# Altium footprint library PCAL6524EVJ.PcbLib: 1 footprints
Each footprint in its own frame and in the unit in brackets; x right, y up, seen from the top. Pads: shape width x height; smd on the part's side, far side on the other; paste and mask are expansions set on the pad; w line width, h text height; cw(c..) or ccw(c..) is an arc to the next point about the centre after c.
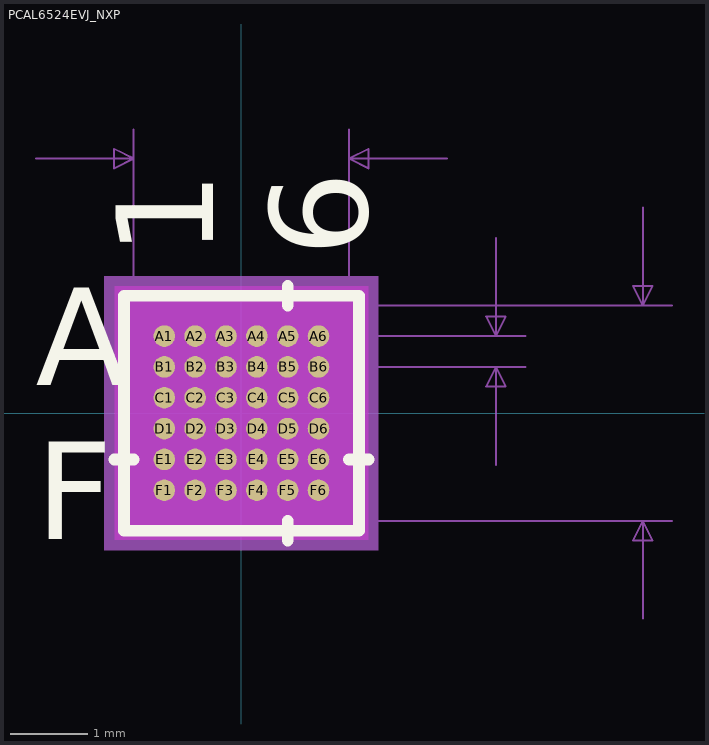
[diagram p0: the footprint, top view; thin cyan lines are the x and y axes]

## PCAL6524EVJ_NXP [mm]
pads (36):
  round 0.279 smd paste+0 mask+0: A1(-1,1) A2(-0.6,1) A3(-0.2,1) A4(0.2,1) A5(0.6,1) A6(1,1) B1(-1,0.6) B2(-0.6,0.6) B3(-0.2,0.6) B4(0.2,0.6) B5(0.6,0.6) B6(1,0.6) C1(-1,0.2) C2(-0.6,0.2) C3(-0.2,0.2) C4(0.2,0.2) C5(0.6,0.2) C6(1,0.2) D1(-1,-0.2) D2(-0.6,-0.2) D3(-0.2,-0.2) D4(0.2,-0.2) D5(0.6,-0.2) D6(1,-0.2) E1(-1,-0.6) E2(-0.6,-0.6) E3(-0.2,-0.6) E4(0.2,-0.6) E5(0.6,-0.6) E6(1,-0.6) F1(-1,-1) F2(-0.6,-1) F3(-0.2,-1) F4(0.2,-1) F5(0.6,-1) F6(1,-1)
Top Overlay:
  lines w0.152: -1.651,-0.6 -1.397,-0.6 ; 0.6,-1.651 0.6,-1.397 ; 0.6,1.397 0.6,1.651 ; 1.397,-0.6 1.651,-0.6 ; -1.524,-1.524 -1.524,1.524 1.524,1.524 1.524,-1.524 -1.524,-1.524
  text "6" at 1.635,2.032 h1.27
  text "1" at -0.365,2.032 h1.27
  text "F" at -2.667,-1.635 h1.27
  text "A" at -2.667,0.365 h1.27
Bottom Overlay:
  text "6" at 0.365,2.032 h1.27
  text "1" at -1.635,2.032 h1.27
  text "F" at -2.032,-1.635 h1.27
  text "A" at -2.032,0.365 h1.27
Keep-Out Layer:
  region: -1.645,-1.645 -1.645,1.645 1.645,1.645 1.645,-1.645
Mechanical 5:
  region: 1.778,-1.778 -1.778,-1.778 -1.778,1.778 1.778,1.778
Mechanical 7:
  lines w0.025: -2.667,3.302 -1.397,3.302 ; -1.397,0 -1.397,3.683 ; 0,-1.397 5.588,-1.397 ; 0,1.397 5.588,1.397 ; 1,0.6 3.683,0.6 ; 1,1 3.683,1 ; 1.397,0 1.397,3.683 ; 2.667,3.302 1.397,3.302 ; 3.302,-0.67 3.302,0.6 ; 3.302,2.27 3.302,1 ; 5.207,-2.667 5.207,-1.397 ; 5.207,2.667 5.207,1.397 ; -1.397,3.302 -1.651,3.175 -1.651,3.429 -1.397,3.302 ; 1.397,3.302 1.651,3.175 1.651,3.429 1.397,3.302 ; 3.302,0.6 3.429,0.346 3.175,0.346 3.302,0.6 ; 3.302,1 3.429,1.254 3.175,1.254 3.302,1 ; 5.207,-1.397 5.334,-1.651 5.08,-1.651 5.207,-1.397 ; 5.207,1.397 5.334,1.651 5.08,1.651 5.207,1.397
  text "0.11in/2.794mm" at 5.715,-0.318 h0.64
  text "0.11in/2.794mm" at -2.222,3.81 h0.64
  text "0.016in/0.4mm" at 3.81,0.483 h0.64
  text "Default Padstyle: EX12Y12D0T" at -8.89,-6.477 h1.27
Mechanical 13:
  lines w0.025: -1.397,1.197 -1.197,1.397 ; -1.397,-1.397 -1.397,1.397 1.397,1.397 1.397,-1.397 -1.397,-1.397
  text "6" at 1.635,2.032 h1.27
  text "1" at -0.365,2.032 h1.27
  text "F" at -2.667,-1.635 h1.27
  text "A" at -2.667,0.365 h1.27
Mechanical 15:
  region: 1.651,-1.651 -1.651,-1.651 -1.651,1.651 1.651,1.651
  lines w0.152: -1.651,-1.651 1.651,-1.651 1.651,1.651 -1.651,1.651 -1.651,-1.651
3D body "PCAL6524EVJ_NXP.step": height 0.99, standoff 0, extent -1.397,-1.397 1.397,1.397